# EAGLE library part MONNIT (library Modules)
Monnit Wireless Module
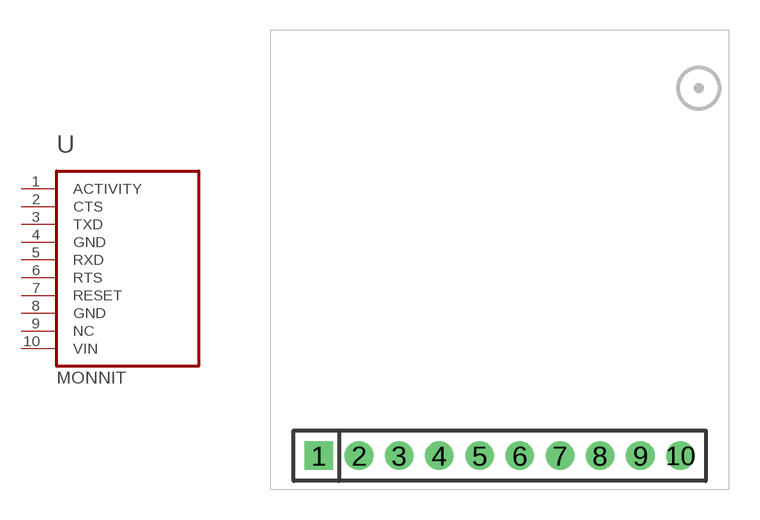
[diagram p3: symbol with the pads of MONNIT; footprint MONNIT]

Designator prefix U

## MONNIT  [MONNIT]
1  ACTIVITY
2  CTS
3  TXD  out
4  GND  pwr
5  RXD  in
6  RTS
7  RESET  in
8  GND  pwr
9  NC  nc
10  VIN  pwr

## Footprint MONNIT (pad centres in mm)
SIP Header - 2mm, 28 mil drill
drill 0.711 pad 1.422 square: 1 -9,0
drill 0.711 pad 1.422: 2 -7,0; 3 -5,0; 4 -3,0; 5 -1,0; 6 1,0; 7 3,0; 8 5,0; 9 7,0; 10 9,0